# Altium integrated library LM339D.IntLib: 1 symbol
Pins are listed as number, name and electrical type; pins without a type are passive.

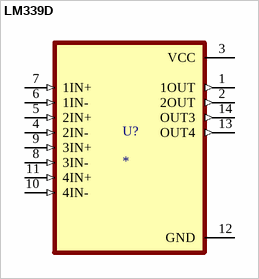
[diagram p0: symbol LM339D]

## LM339D
designator U?
MP: LM339D; Price: None; Value: *; Package: None; Availability: Unavailable
footprint SOIC127P600X175-14N
pins: 1 1OUT (out), 2 2OUT (out), 3 VCC (power), 4 2IN- (in), 5 2IN+ (in), 6 1IN- (in), 7 1IN+ (in), 8 3IN- (in), 9 3IN+ (in), 10 4IN- (in), 11 4IN+ (in), 12 GND (power), 13 OUT4 (out), 14 OUT3 (out)